# EAGLE library part FT230X (library custom)
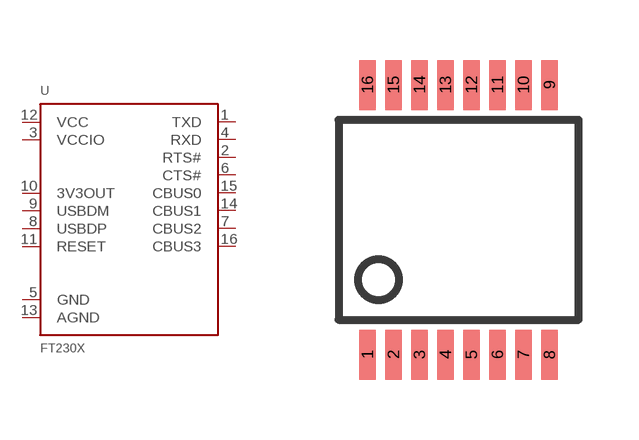
[diagram p0: symbol with the pads of SSOP-16; footprint SSOP-16]

Designator prefix U

## FT230X  [SSOP-16]
1  TXD
2  RTS#
3  VCCIO
4  RXD
5  GND
6  CTS#
7  CBUS2
8  USBDP
9  USBDM
10  3V3OUT
11  RESET
12  VCC
13  AGND
14  CBUS1
15  CBUS0
16  CBUS3

## Footprint SSOP-16 (pad centres in mm)
smd 0.42 x 1.25: 1 -2.275,-3.375; 2 -1.625,-3.375; 3 -0.975,-3.375; 4 -0.325,-3.375; 5 0.325,-3.375; 6 0.975,-3.375; 7 1.625,-3.375; 8 2.275,-3.375; 9 2.275,3.375; 10 1.625,3.375; 11 0.975,3.375; 12 0.325,3.375; 13 -0.325,3.375; 14 -0.975,3.375; 15 -1.625,3.375; 16 -2.275,3.375